# Altium footprint library Capacitors.PcbLib: 25 footprints (part 1 of 2)
Each footprint in its own frame and in the unit in brackets; x right, y up, seen from the top. Pads: shape width x height; smd on the part's side, far side on the other; paste and mask are expansions set on the pad; w line width, h text height; cw(c..) or ccw(c..) is an arc to the next point about the centre after c.
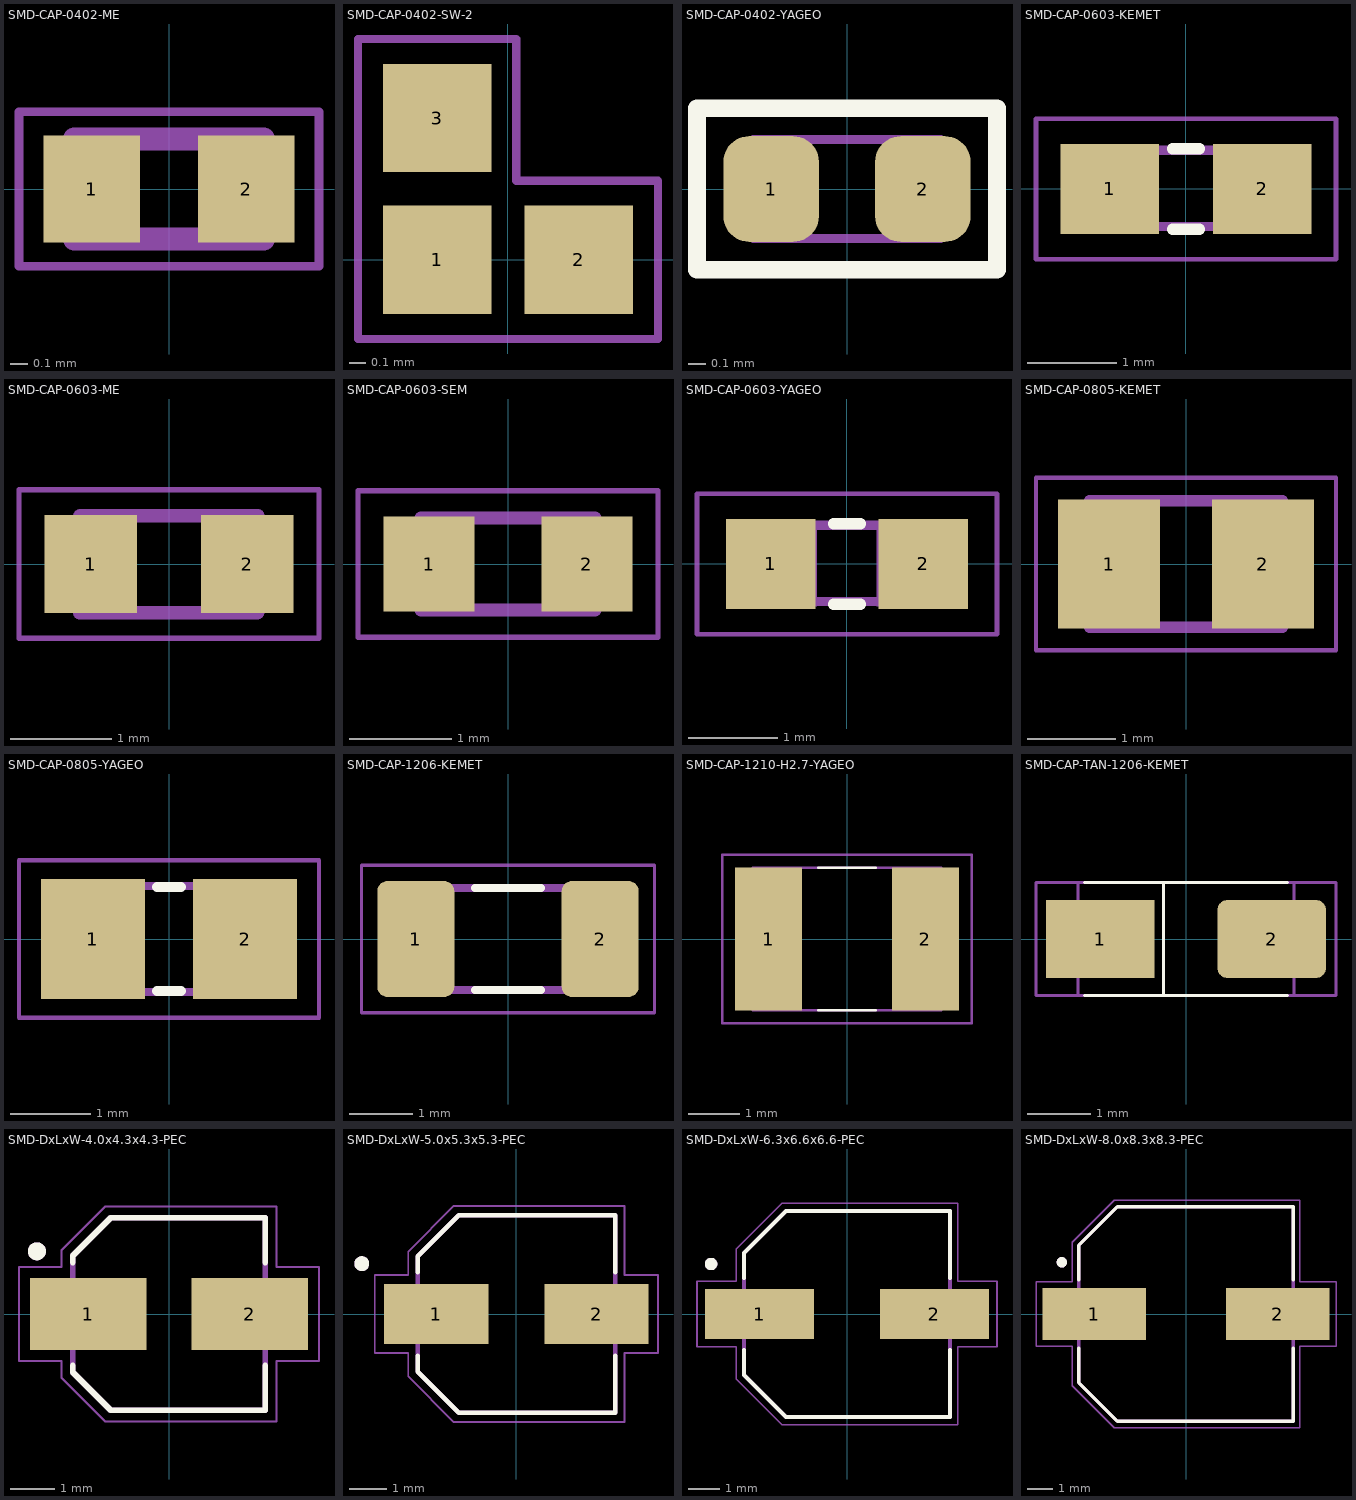
[diagram p0: the footprints below, top view; thin cyan lines are the x and y axes]

## SMD-CAP-0402-ME [mm]
pads (2):
  rect 0.54x0.6 smd: 1(-0.432,0) 2(0.432,0)
Mechanical 1:
  lines w0.127: -0.53,-0.28 0.53,-0.28 0.53,0.28 -0.53,0.28 -0.53,-0.28
Mechanical 13:
  lines w0.127: -0.53,-0.28 0.53,-0.28 0.53,0.28 -0.53,0.28 -0.53,-0.28
Mechanical 15:
  lines w0.05: -0.838,-0.432 -0.838,0.432 0.838,0.432 0.838,-0.432 -0.838,-0.432
Mechanical 29:
  lines w0.05: -0.838,-0.432 0.838,-0.432 0.838,0.432 -0.838,0.432 -0.838,-0.432
  text "'.Designator'" at -0.943,-0.162 h0.4
3D body "GJM1555C1H1R0WB01D.step": height 0.55, standoff 0, extent -0.5,-0.25 0.5,0.25

## SMD-CAP-0402-SW-2 [mm]
pads (3):
  rect 0.66x0.66 smd: 1(-0.432,0) 2(0.432,0) 3(-0.432,0.864)
Mechanical 15:
  lines w0.05: -0.914,-0.483 0.914,-0.483 0.914,0.483 0.051,0.483 0.051,1.346 -0.914,1.346 -0.914,-0.483
Mechanical 29:
  lines w0.05: -0.914,-0.483 0.914,-0.483 0.914,0.483 0.051,0.483 0.051,1.346 -0.914,1.346 -0.914,-0.483
  text "'.Designator'" at -0.943,-0.162 h0.4
3D body "GJM1555C1H1R0WB01D.step": height 0.55, standoff 0, extent -0.682,-0.043 -0.182,0.957
3D body "GJM1555C1H1R0WB01D.step": height 0.55, standoff 0, extent -0.5,-0.25 0.5,0.25

## SMD-CAP-0402-YAGEO [mm]
pads (2):
  rrect53% 0.54x0.6 smd: 1(-0.43,0) 2(0.43,0)
Top Overlay:
  lines w0.1: -0.85,-0.457 -0.85,0.457 0.85,0.457 0.85,-0.457 -0.85,-0.457
Mechanical 1:
  lines w0.05: -0.53,-0.28 -0.53,0.28 0.53,0.28 0.53,-0.28 -0.53,-0.28
Mechanical 13:
  lines w0.05: -0.53,-0.28 -0.53,0.28 0.53,0.28 0.53,-0.28 -0.53,-0.28
Mechanical 15:
  lines w0.05: -0.85,-0.457 -0.85,0.457 0.85,0.457 0.85,-0.457 -0.85,-0.457
Mechanical 29:
  lines w0.05: -0.85,-0.457 -0.85,0.457 0.85,0.457 0.85,-0.457 -0.85,-0.457
  text "'.Designator'" at -0.991,-0.178 h0.4
3D body "GJM1555C1H1R0WB01D.step": height 0.55, standoff 0, extent -0.5,-0.25 0.5,0.25

## SMD-CAP-0603-KEMET [mm]
pads (2):
  rect 1.1x1 smd: 1(-0.85,0) 2(0.85,0)
Top Overlay:
  lines w0.127: -0.15,-0.45 0.15,-0.45 ; -0.15,0.45 0.15,0.45
Mechanical 1:
  region: -0.338,-0.47 -0.839,-0.47 -0.839,0.48 -0.338,0.48
  region: 0.83,-0.471 0.331,-0.471 0.331,0.48 0.83,0.48
  lines w0.102: -0.356,-0.419 0.356,-0.419 ; -0.356,0.432 0.356,0.432
Mechanical 13:
  region: -0.338,-0.47 -0.839,-0.47 -0.839,0.48 -0.338,0.48
  region: 0.83,-0.471 0.331,-0.471 0.331,0.48 0.83,0.48
  lines w0.102: -0.356,-0.419 0.356,-0.419 ; -0.356,0.432 0.356,0.432
Mechanical 15:
  lines w0.051: -1.673,-0.783 1.673,-0.783 1.673,0.783 -1.673,0.783 -1.673,-0.783
Mechanical 29:
  lines w0.051: -1.673,-0.783 1.673,-0.783 1.673,0.783 -1.673,0.783 -1.673,-0.783
  text "'.Designator'" at -1.778,-0.254 h0.7
3D body "step_temp.STEP": height 0.87, standoff 0, extent -0.8,-0.4 0.8,0.4

## SMD-CAP-0603-ME [mm]
pads (2):
  rect 0.92x0.97 smd: 1(-0.775,0) 2(0.775,0)
Mechanical 1:
  lines w0.127: -0.885,-0.485 0.875,-0.485 0.875,0.475 -0.885,0.475 -0.885,-0.485
Mechanical 13:
  lines w0.127: -0.88,-0.48 0.88,-0.48 0.88,0.48 -0.88,0.48 -0.88,-0.48
Mechanical 15:
  lines w0.05: -1.485,-0.735 1.485,-0.735 1.485,0.735 -1.485,0.735 -1.485,-0.735
Mechanical 29:
  lines w0.05: -1.485,-0.735 1.485,-0.735 1.485,0.735 -1.485,0.735 -1.485,-0.735
  text "'.Designator'" at -1.016,-0.254 h0.5
3D body "CAP_GQM187_MUR.step": height 0.81, standoff 0, extent -0.876,-0.47 0.876,0.47

## SMD-CAP-0603-SEM [mm]
pads (2):
  rect 0.89x0.93 smd: 1(-0.77,0) 2(0.77,0)
Mechanical 1:
  lines w0.127: -0.85,-0.45 0.85,-0.45 0.85,0.45 -0.85,0.45 -0.85,-0.45
Mechanical 13:
  lines w0.127: -0.85,-0.45 0.85,-0.45 0.85,0.45 -0.85,0.45 -0.85,-0.45
Mechanical 15:
  lines w0.05: -1.465,-0.715 1.465,-0.715 1.465,0.715 -1.465,0.715 -1.465,-0.715
Mechanical 29:
  lines w0.05: -1.465,-0.715 1.465,-0.715 1.465,0.715 -1.465,0.715 -1.465,-0.715
  text "'.Designator'" at -1.778,-0.254 h0.7
3D body "CL10B105KP8NNNC.step": height 0.8, standoff 0, extent -0.8,-0.45 0.8,0.45

## SMD-CAP-0603-YAGEO [mm]
pads (2):
  rect 1x1 smd: 1(-0.85,0) 2(0.85,0)
Top Overlay:
  lines w0.127: -0.15,-0.45 0.15,-0.45 ; -0.15,0.45 0.15,0.45
Mechanical 1:
  region: 0.83,-0.471 0.331,-0.471 0.331,0.48 0.83,0.48
  region: -0.338,-0.47 -0.839,-0.47 -0.839,0.48 -0.338,0.48
  lines w0.102: -0.356,-0.419 0.356,-0.419 ; -0.356,0.432 0.356,0.432
Mechanical 13:
  region: 0.83,-0.471 0.331,-0.471 0.331,0.48 0.83,0.48
  region: -0.338,-0.47 -0.839,-0.47 -0.839,0.48 -0.338,0.48
  lines w0.102: -0.356,-0.419 0.356,-0.419 ; -0.356,0.432 0.356,0.432
Mechanical 15:
  lines w0.051: -1.673,-0.783 -1.673,0.783 1.673,0.783 1.673,-0.783 -1.673,-0.783
Mechanical 29:
  lines w0.051: -1.673,-0.783 -1.673,0.783 1.673,0.783 1.673,-0.783 -1.673,-0.783
  text "'.Designator'" at -1.016,0 h0.4
3D body "step_temp.STEP": height 0.87, standoff 0, extent -0.8,-0.4 0.8,0.4

## SMD-CAP-0805-KEMET [mm]
pads (2):
  rect 1.16x1.47 smd: 1(-0.875,0) 2(0.875,0)
Mechanical 1:
  lines w0.127: -1.1,-0.72 -1.1,0.72 1.1,0.72 1.1,-0.72 -1.1,-0.72
Mechanical 13:
  lines w0.127: -1.1,-0.72 -1.1,0.72 1.1,0.72 1.1,-0.72 -1.1,-0.72
Mechanical 15:
  lines w0.05: -1.708,-0.983 -1.708,0.983 1.708,0.983 1.708,-0.983 -1.708,-0.983
Mechanical 29:
  lines w0.05: -1.708,-0.983 -1.708,0.983 1.708,0.983 1.708,-0.983 -1.708,-0.983
  text "'.Designator'" at -1.778,-0.254 h0.7
3D body "step_temp.STEP": height 1.4, standoff 0, extent -1.016,-0.635 1.016,0.635

## SMD-CAP-0805-YAGEO [mm]
pads (2):
  rect 1.3x1.5 smd: 1(-0.95,0) 2(0.95,0)
Top Overlay:
  lines w0.127: -0.15,-0.65 0.15,-0.65 ; -0.15,0.65 0.15,0.65
Mechanical 1:
  region: 1.106,-0.724 0.356,-0.724 0.356,0.726 1.106,0.726
  region: -0.342,-0.724 -1.092,-0.724 -1.092,0.726 -0.342,0.726
  lines w0.102: -0.381,0.66 0.381,0.66 ; -0.356,-0.66 0.381,-0.66
Mechanical 13:
  lines w0.1: -1.016,-0.66 -1.016,0.66 ; 1.016,-0.66 1.016,0.66
  lines w0.102: -1.016,-0.66 1.016,-0.66 ; -1.016,0.66 1.016,0.66
Mechanical 15:
  lines w0.051: -1.873,-0.983 -1.873,0.983 1.873,0.983 1.873,-0.983 -1.873,-0.983
Mechanical 29:
  lines w0.051: -1.873,-0.983 -1.873,0.983 1.873,0.983 1.873,-0.983 -1.873,-0.983
3D body "CAP 0805.STEP": height 1.35, standoff 0, extent -1,-0.625 1,0.625

## SMD-CAP-1206-KEMET [mm]
pads (2):
  rrect25% 1.21x1.82 smd: 1(-1.45,0) 2(1.45,0)
Top Overlay:
  lines w0.127: -0.52,-0.8 0.52,-0.8 ; -0.52,0.8 0.52,0.8
Mechanical 1:
  lines w0.127: -1.6,-0.8 -1.6,0.8 1.6,0.8 1.6,-0.8 -1.6,-0.8
Mechanical 13:
  lines w0.127: -1.6,-0.8 -1.6,0.8 1.6,0.8 1.6,-0.8 -1.6,-0.8
Mechanical 15:
  lines w0.05: -2.305,-1.16 -2.305,1.16 2.305,1.16 2.305,-1.16 -2.305,-1.16
Mechanical 29:
  lines w0.05: -2.305,-1.16 -2.305,1.16 2.305,1.16 2.305,-1.16 -2.305,-1.16
  text "'.Designator'" at -1.524,-0.254 h0.7
3D body "step_temp.STEP": height 1.4, standoff 0, extent -1.6,-0.8 1.6,0.8

## SMD-CAP-1210-H2.7-YAGEO [mm]
pads (2):
  rect 1.32x2.81 smd: 1(-1.542,0) 2(1.542,0)
Top Overlay:
  lines w0.05: -0.56,-1.4 0.56,-1.4 ; -0.56,1.4 0.56,1.4
Mechanical 1:
  lines w0.05: -1.85,-1.4 -1.85,1.4 1.85,1.4 1.85,-1.4 -1.85,-1.4
Mechanical 13:
  lines w0.05: -1.85,-1.4 -1.85,1.4 1.85,1.4 1.85,-1.4 -1.85,-1.4
Mechanical 15:
  lines w0.05: -2.454,-1.655 -2.454,1.655 2.454,1.655 2.454,-1.655 -2.454,-1.655
Mechanical 29:
  lines w0.05: -2.454,-1.655 -2.454,1.655 2.454,1.655 2.454,-1.655 -2.454,-1.655
  text "'.Designator'" at -1.168,-0.203 h0.5
3D body "CAP 1210.STEP": height 2.8, standoff 0, extent -1.6,-1.25 1.6,1.25

## SMD-CAP-TAN-1206-KEMET [mm]
pads (2):
  rect 1.71x1.23 smd: 1(-1.35,0)
  rrect25% 1.71x1.23 smd: 2(1.35,0)
Top Overlay:
  lines w0.05: -1.6,-0.889 1.6,-0.889 ; -1.6,0.889 1.6,0.889 ; -0.356,-0.889 -0.356,0.889
Mechanical 1:
  lines w0.05: -1.7,-0.889 -1.7,0.889 1.7,0.889 1.7,-0.889 -1.7,-0.889
Mechanical 13:
  lines w0.05: -1.7,-0.889 -1.7,0.889 1.7,0.889 1.7,-0.889 -1.7,-0.889
Mechanical 15:
  lines w0.05: -2.362,-0.889 -2.362,0.889 2.362,0.889 2.362,-0.889 -2.362,-0.889
Mechanical 29:
  lines w0.05: -2.362,-0.889 -2.362,0.889 2.362,0.889 2.362,-0.889 -2.362,-0.889
3D body "T491A106M010AT.step": height 1.8, standoff 0, extent -1.6,-0.8 1.6,0.8

## SMD-DxLxW-4.0x4.3x4.3-PEC [mm]
pads (2):
  rect 2.6x1.6 smd: 1(-1.8,0) 2(1.8,0)
Top Overlay:
  circle w0.2: c-2.95,1.4 r0.1
  lines w0.127: -2.15,-1.15 -2.15,-1.3 -1.3,-2.15 2.15,-2.15 2.15,-1.15 ; -2.15,1.15 -2.15,1.3 -1.3,2.15 2.15,2.15 2.15,1.15
Mechanical 1:
  lines w0.127: -2.15,-1.3 -1.3,-2.15 2.15,-2.15 2.15,2.15 -1.3,2.15 -2.15,1.3 -2.15,-1.3
Mechanical 13:
  circle w0.2: c-2.95,1.4 r0.1
  lines w0.127: -2.15,-1.3 -1.3,-2.15 2.15,-2.15 2.15,2.15 -1.3,2.15 -2.15,1.3 -2.15,-1.3
Mechanical 15:
  lines w0.05: -3.35,-1.05 -2.4,-1.05 -2.4,-1.425 -1.425,-2.4 2.4,-2.4 2.4,-1.05 3.35,-1.05 3.35,1.05 2.4,1.05 2.4,2.4 -1.425,2.4 -2.4,1.425 -2.4,1.05 -3.35,1.05 -3.35,-1.05
Mechanical 29:
  lines w0.05: -3.35,-1.05 -2.4,-1.05 -2.4,-1.425 -1.425,-2.4 2.4,-2.4 2.4,-1.05 3.35,-1.05 3.35,1.05 2.4,1.05 2.4,2.4 -1.425,2.4 -2.4,1.425 -2.4,1.05 -3.35,1.05 -3.35,-1.05
  text "'.Designator'" at -1.778,-0.254 h0.7
3D body "10SVPS10M.step": height 5.37, standoff 0, extent -2.46,-2.014 2.54,2.286

## SMD-DxLxW-5.0x5.3x5.3-PEC [mm]
height 5.8
pads (2):
  rect 2.8x1.6 smd: 1(-2.15,0) 2(2.15,0)
Top Overlay:
  circle w0.2: c-4.15,1.35 r0.1
  lines w0.127: -2.65,-1.12 -2.65,-1.55 -1.55,-2.65 2.65,-2.65 2.65,-1.12 ; -2.65,1.12 -2.65,1.55 -1.55,2.65 2.65,2.65 2.65,1.12
Mechanical 1:
  lines w0.127: -2.65,-1.55 -1.55,-2.65 2.65,-2.65 2.65,2.65 -1.55,2.65 -2.65,1.55 -2.65,-1.55
Mechanical 13:
  circle w0.2: c-4.15,1.35 r0.1
  lines w0.127: -2.65,-1.55 -1.55,-2.65 2.65,-2.65 2.65,2.65 -1.55,2.65 -2.65,1.55 -2.65,-1.55
Mechanical 15:
  lines w0.05: -3.8,-1.05 -3.8,1.05 -2.9,1.05 -2.9,1.675 -1.675,2.9 2.9,2.9 2.9,1.05 3.8,1.05 3.8,-1.05 2.9,-1.05 2.9,-2.9 -1.675,-2.9 -2.9,-1.675 -2.9,-1.05 -3.8,-1.05
Mechanical 29:
  lines w0.05: -3.8,-1.05 -3.8,1.05 -2.9,1.05 -2.9,1.675 -1.675,2.9 2.9,2.9 2.9,1.05 3.8,1.05 3.8,-1.05 2.9,-1.05 2.9,-2.9 -1.675,-2.9 -2.9,-1.675 -2.9,-1.05 -3.8,-1.05
  text "'.Designator'" at -1.524,-0.254 h0.7
3D body "step_temp.STEP": height 5.8, standoff 0, extent -3,-2.65 3,2.65

## SMD-DxLxW-6.3x6.6x6.6-PEC [mm]
pads (2):
  rect 3.5x1.6 smd: 1(-2.8,0) 2(2.8,0)
Top Overlay:
  circle w0.2: c-4.35,1.6 r0.1
  lines w0.127: -3.3,-1.15 -3.3,-1.95 -1.95,-3.3 3.3,-3.3 3.3,-1.15 ; -3.3,1.15 -3.3,1.95 -1.95,3.3 3.3,3.3 3.3,1.15
Mechanical 1:
  lines w0.127: -3.3,-1.95 -1.95,-3.3 3.3,-3.3 3.3,3.3 -1.95,3.3 -3.3,1.95 -3.3,-1.95
Mechanical 13:
  circle w0.2: c-4.35,1.6 r0.1
  lines w0.127: -3.3,-1.95 -1.95,-3.3 3.3,-3.3 3.3,3.3 -1.95,3.3 -3.3,1.95 -3.3,-1.95
Mechanical 15:
  lines w0.05: -4.8,-1.05 -3.55,-1.05 -3.55,-2.075 -2.075,-3.55 3.55,-3.55 3.55,-1.05 4.8,-1.05 4.8,1.05 3.55,1.05 3.55,3.55 -2.075,3.55 -3.55,2.075 -3.55,1.05 -4.8,1.05 -4.8,-1.05
Mechanical 29:
  lines w0.05: -4.8,-1.05 -3.55,-1.05 -3.55,-2.075 -2.075,-3.55 3.55,-3.55 3.55,-1.05 4.8,-1.05 4.8,1.05 3.55,1.05 3.55,3.55 -2.075,3.55 -3.55,2.075 -3.55,1.05 -4.8,1.05 -4.8,-1.05
  text "'.Designator'" at -1.778,-0.254 h0.7
3D body "25SVPF47M.step": height 5.9, standoff 0, extent -3.65,-3.3 3.65,3.3

## SMD-DxLxW-8.0x8.3x8.3-PEC [mm]
height 10.2
pads (2):
  rect 4x2 smd: 1(-3.55,0) 2(3.55,0)
Top Overlay:
  circle w0.2: c-4.8,2 r0.1
  lines w0.127: -4.15,-1.32 -4.15,-2.65 -2.65,-4.15 4.15,-4.15 4.15,-1.32 ; -4.15,1.32 -4.15,2.65 -2.65,4.15 4.15,4.15 4.15,1.32
Mechanical 13:
  circle w0.2: c-4.8,2 r0.1
  lines w0.127: -4.15,-2.65 -2.65,-4.15 4.15,-4.15 4.15,4.15 -2.65,4.15 -4.15,2.65 -4.15,-2.65
Mechanical 15:
  lines w0.05: -5.8,-1.25 -5.8,1.25 -4.4,1.25 -4.4,2.775 -2.775,4.4 4.4,4.4 4.4,1.25 5.8,1.25 5.8,-1.25 4.4,-1.25 4.4,-4.4 -2.775,-4.4 -4.4,-2.775 -4.4,-1.25 -5.8,-1.25
3D body "step_temp.STEP": height 10.2, standoff 0, extent -4.85,-4.15 4.85,4.15